# Altium footprint library Capacitors_rus.PCBLIB: 349 footprints (part 20 of 22)
Each footprint in its own frame and in the unit in brackets; x right, y up, seen from the top. Pads: shape width x height; smd on the part's side, far side on the other; paste and mask are expansions set on the pad; w line width, h text height; cw(c..) or ccw(c..) is an arc to the next point about the centre after c.
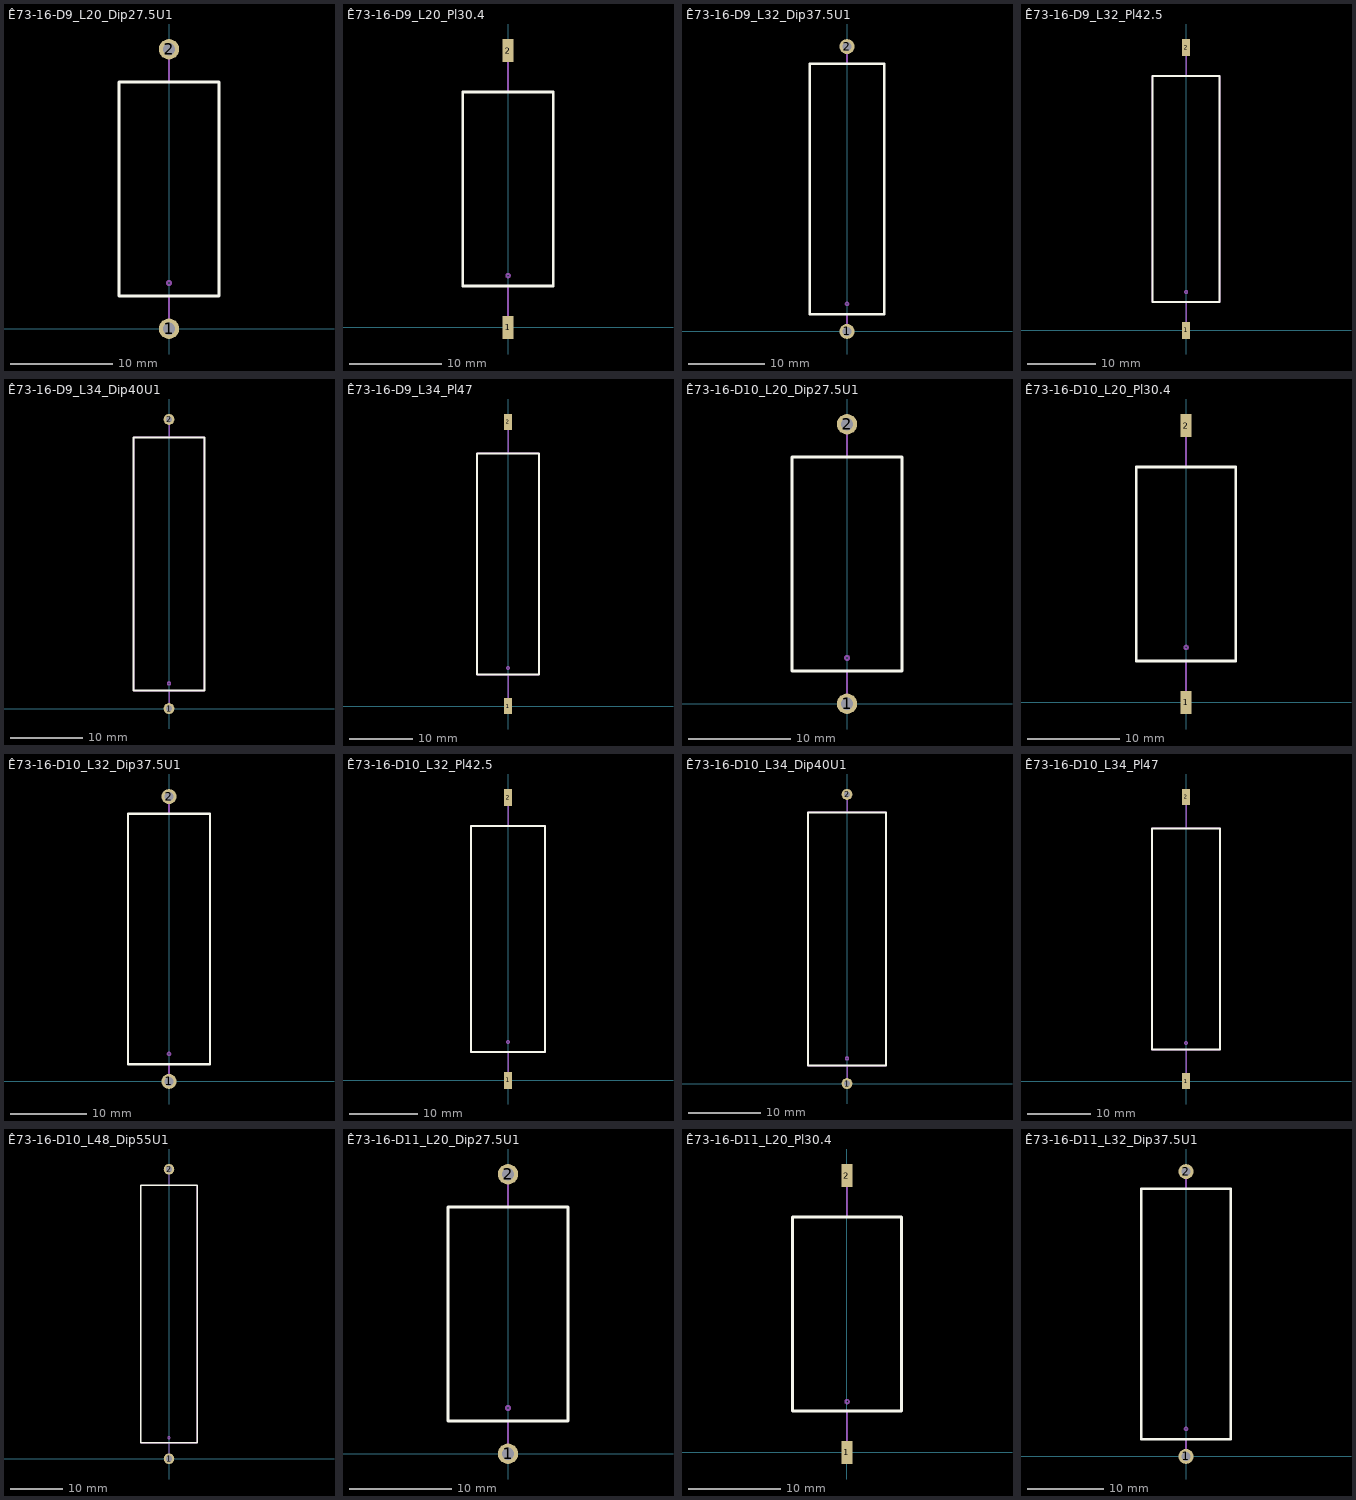
[diagram p19: the footprints below, top view; thin cyan lines are the x and y axes]

## Ê73-16-D9_L20_Dip27.5U1 [mm]
height 9.8
pads (2):
  round 2 hole 1.2: 1(0,0) 2(0,27.5)
Top Overlay:
  lines w0.3: -4.9,3.25 4.9,3.25 4.9,24.25 -4.9,24.25 -4.9,3.25
Mechanical 1:
  circle w0.2: c0.01,4.51 r0.2
  lines w0.2: 0,0 0,3.28 ; 0,24.23 0,27.5 ; -4.9,3.25 4.9,3.25 4.9,24.25 -4.9,24.25 -4.9,3.25
  text ".Designator" at 0.55,12.15 h1.5
3D body: height 9, standoff -3, extent -4.5,-0.4 4.482,27.898

## Ê73-16-D9_L20_Pl30.4 [mm]
height 9.8
pads (2):
  rect 1.2x2.5 smd: 1(0,0) 2(0,30)
Top Overlay:
  lines w0.3: -4.9,4.5 -4.9,25.5 4.9,25.5 4.9,4.5 -4.9,4.5
Mechanical 1:
  circle w0.2: c0.01,5.61 r0.2
  lines w0.2: 0,-0.2 0,4.53 ; 0,25.48 0,30.2 ; -4.9,4.5 -4.9,25.5 4.9,25.5 4.9,4.5 -4.9,4.5
  text ".Designator" at 0.45,13.3 h1.5
3D body: height 9, standoff 0, extent -4.5,-1 4.482,31

## Ê73-16-D9_L32_Dip37.5U1 [mm]
height 9.8
pads (2):
  round 2 hole 1.2: 1(0,0) 2(0,37.5)
Top Overlay:
  lines w0.3: -4.9,2.25 4.9,2.25 4.9,35.25 -4.9,35.25 -4.9,2.25
Mechanical 1:
  circle w0.2: c0,3.63 r0.2
  lines w0.2: 0,0 0,2.27 ; 0,35.23 0,37.5 ; -4.9,2.25 4.9,2.25 4.9,35.25 -4.9,35.25 -4.9,2.25
  text ".Designator" at 0.45,16.2 h1.5
3D body: height 9, standoff -3, extent -4.5,-0.4 4.482,37.898

## Ê73-16-D9_L32_Pl42.5 [mm]
height 9.8
pads (2):
  rect 1.2x2.5 smd: 1(0,0) 2(0,41.25)
Top Overlay:
  lines w0.3: -4.9,4.125 -4.9,37.125 4.9,37.125 4.9,4.125 -4.9,4.125
Mechanical 1:
  circle w0.2: c0,5.605 r0.2
  lines w0.2: 0,-0.625 0,4.145 ; 0,37.125 0,41.875 ; -4.9,4.125 -4.9,37.125 4.9,37.125 4.9,4.125 -4.9,4.125
  text ".Designator" at 0.3,18.8 h1.5
3D body: height 9, standoff 0, extent -4.5,-1 4.482,42.5

## Ê73-16-D9_L34_Dip40U1 [mm]
height 9.8
pads (2):
  round 1.5 hole 0.8 unplated: 1(0,0) 2(0,40)
Top Overlay:
  lines w0.3: -4.9,2.5 -4.9,37.5 4.9,37.5 4.9,2.5 -4.9,2.5
Mechanical 1:
  circle w0.2: c0,3.48 r0.2
  lines w0.2: 0,0 0,2.5 ; 0,37.5 0,40 ; -4.9,2.5 -4.9,37.5 4.9,37.5 4.9,2.5 -4.9,2.5
  text ".Designator" at 0.3,19.4 h1.5
3D body: height 9, standoff -3, extent -4.5,-0.4 4.482,40.398

## Ê73-16-D9_L34_Pl47 [mm]
height 9.8
pads (2):
  rect 1.2x2.5 smd: 1(0,0) 2(0,45)
Top Overlay:
  lines w0.3: -4.9,5 -4.9,40 4.9,40 4.9,5 -4.9,5
Mechanical 1:
  circle w0.2: c0,6.03 r0.2
  lines w0.2: 0,-1 0,5 ; 0,40 0,46 ; -4.9,5 -4.9,40 4.9,40 4.9,5 -4.9,5
  text ".Designator" at 0.3,22.4 h1.5
3D body: height 9, standoff 0, extent -4.5,-1 4.482,46

## Ê73-16-D10_L20_Dip27.5U1 [mm]
height 10.8
pads (2):
  round 2 hole 1.2: 1(0,0) 2(0,27.5)
Top Overlay:
  lines w0.3: -5.4,3.25 5.4,3.25 5.4,24.25 -5.4,24.25 -5.4,3.25
Mechanical 1:
  lines w0.2: 0,0 0,3.28 ; 0,24.23 0,27.5 ; 0.01,4.71 ccw(c0.01,4.51) 0.019,4.71 ; -5.4,3.25 5.4,3.25 5.4,24.25 -5.4,24.25 -5.4,3.25
  text ".Designator" at 0.4,12.4 h1.5
3D body: height 10, standoff -3, extent -5,-0.4 4.98,27.898

## Ê73-16-D10_L20_Pl30.4 [mm]
height 10.8
pads (2):
  rect 1.2x2.5 smd: 1(0,0) 2(0,30)
Top Overlay:
  lines w0.3: -5.4,4.5 -5.4,25.5 5.4,25.5 5.4,4.5 -5.4,4.5
Mechanical 1:
  circle w0.2: c0.01,5.96 r0.2
  lines w0.2: 0,-0.2 0,4.54 ; 0,25.48 0,30.2 ; -5.4,4.5 -5.4,25.5 5.4,25.5 5.4,4.5 -5.4,4.5
  text ".Designator" at 0.4,13.85 h1.5
3D body: height 10, standoff 0, extent -5,-1 4.98,31

## Ê73-16-D10_L32_Dip37.5U1 [mm]
height 10.8
pads (2):
  round 2 hole 1.2: 1(0,0) 2(0,37.5)
Top Overlay:
  lines w0.3: -5.4,2.25 5.4,2.25 5.4,35.25 -5.4,35.25 -5.4,2.25
Mechanical 1:
  circle w0.2: c0,3.63 r0.2
  lines w0.2: 0,0 0,2.27 ; 0,35.23 0,37.5 ; 5.4,2.24 5.4,35.25 -5.4,35.25 -5.4,2.25 5.4,2.25
  text ".Designator" at -0.05,17.4 h1.5
3D body: height 10, standoff -3, extent -5,-0.4 4.98,37.898

## Ê73-16-D10_L32_Pl42.5 [mm]
height 10.8
pads (2):
  rect 1.2x2.5 smd: 1(0,0) 2(0,41.25)
Top Overlay:
  lines w0.3: -5.4,4.125 5.4,4.125 5.4,37.125 -5.4,37.125 -5.4,4.125
Mechanical 1:
  lines w0.2: 0,-0.625 0,4.145 ; 0,5.792 ccw(c0,5.605) 0.01,5.792 ; 0,37.105 0,41.875 ; -5.4,4.125 5.4,4.125 5.4,37.125 -5.4,37.125 -5.4,4.125
  text ".Designator" at -0.05,20.95 h1.5
3D body: height 10, standoff 0, extent -5,-1 4.98,42.5

## Ê73-16-D10_L34_Dip40U1 [mm]
height 10.8
pads (2):
  round 1.5 hole 0.8 unplated: 1(0,0) 2(0,40)
Top Overlay:
  lines w0.3: -5.4,2.5 -5.4,37.5 5.4,37.5 5.4,2.5 -5.4,2.5
Mechanical 1:
  circle w0.2: c0,3.48 r0.2
  lines w0.2: 0,0 0,2.5 ; 0,37.5 0,40 ; -5.4,2.5 -5.4,37.5 5.4,37.5 5.4,2.5 -5.4,2.5
  text ".Designator" at 0.3,19.4 h1.5
3D body: height 10, standoff -3, extent -5,-0.4 4.98,40.398

## Ê73-16-D10_L34_Pl47 [mm]
height 10.8
pads (2):
  rect 1.2x2.5 smd: 1(0,0) 2(0,45)
Top Overlay:
  lines w0.3: -5.4,5 5.4,5 5.4,40 -5.4,40 -5.4,5
Mechanical 1:
  circle w0.2: c0,6.03 r0.2
  lines w0.2: 0,-1 0,5 ; 0,40 0,46 ; -5.4,5 5.4,5 5.4,40 -5.4,40 -5.4,5
  text ".Designator" at 0.3,21.4 h1.5
3D body: height 10, standoff 0, extent -5,-1 4.98,46

## Ê73-16-D10_L48_Dip55U1 [mm]
height 10.8
pads (2):
  round 2 hole 1.2: 1(0,0) 2(0,55)
Top Overlay:
  lines w0.3: -5.4,3 -5.4,52 5.4,52 5.4,3 -5.4,3
Mechanical 1:
  circle w0.2: c0,3.99 r0.2
  lines w0.2: 0,0 0,3.02 ; 0,51.98 0,55 ; -5.4,3 -5.4,52 5.4,52 5.4,3 -5.4,3
  text ".Designator" at 0.3,27.15 h1.5
3D body: height 10, standoff -3, extent -5,-0.4 4.98,55.398

## Ê73-16-D11_L20_Dip27.5U1 [mm]
height 11.8
pads (2):
  round 2 hole 1.2: 1(0,0) 2(0,27.5)
Top Overlay:
  lines w0.3: -5.9,3.25 5.9,3.25 5.9,24.25 -5.9,24.25 -5.9,3.25
Mechanical 1:
  circle w0.2: c0.01,4.51 r0.2
  lines w0.2: 0,0 0,3.28 ; 0,24.23 0,27.5 ; -5.9,3.25 5.9,3.25 5.9,24.25 -5.9,24.25 -5.9,3.25
  text ".Designator" at 0.3,13.1 h1.5
3D body: height 11, standoff -3, extent -5.5,-0.4 5.478,27.898

## Ê73-16-D11_L20_Pl30.4 [mm]
height 11.8
pads (2):
  rect 1.2x2.5 smd: 1(0,0) 2(0,30)
Top Overlay:
  lines w0.3: 5.9,4.5 5.9,25.49 ; 5.9,25.5 -5.9,25.5 -5.9,4.5 5.91,4.5
Mechanical 1:
  circle w0.2: c0.01,5.51 r0.2
  lines w0.2: 0,-0.2 0,4.53 ; 0,25.48 0,30.2 ; -5.9,4.5 5.9,4.5 5.9,25.5 -5.9,25.5 -5.9,4.5
  text ".Designator" at 0.3,13.25 h1.5
3D body: height 11, standoff 0, extent -5.5,-1 5.478,31

## Ê73-16-D11_L32_Dip37.5U1 [mm]
height 11.8
pads (2):
  round 2 hole 1.2: 1(0,0) 2(0,37.5)
Top Overlay:
  lines w0.3: -5.9,2.25 -5.9,35.25 5.9,35.25 5.9,2.25 -5.9,2.25
Mechanical 1:
  circle w0.2: c0,3.63 r0.2
  lines w0.2: 0,0 0,2.27 ; 0,35.23 0,37.5 ; -5.9,2.25 -5.9,35.25 5.9,35.25 5.9,2.25 -5.9,2.25
  text ".Designator" at 0.25,18.1 h1.5
3D body: height 11, standoff -3, extent -5.5,-0.4 5.478,37.898